# Altium schematic symbol library saw_filter_lib.SchLib: 5 symbols
Pins are listed as number, name and electrical type; pins without a type are passive.

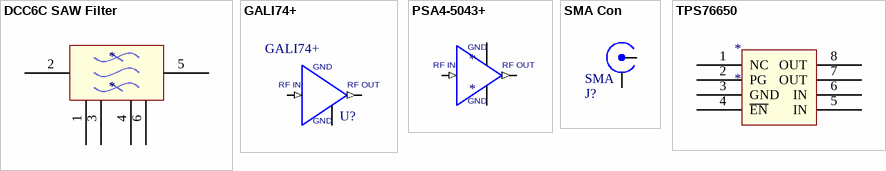
[diagram p0: symbols DCC6C SAW Filter to TPS76650]

## DCC6C SAW Filter
designator *
footprint DCC6C
pins: 1 IN, 2 IN, 3 IN, 4 IN, 5, 6 IN

## GALI74+
designator U?
Value: GALI74+
footprint DF782 (UofA Lib Pavel)
pins: 1 RF-IN (in), 2 GND (power), 3 RF-OUT (out)
text: RF IN; RF OUT

## PSA4-5043+
designator *
footprint SOT-343_M (SOT343, 4-Leads, Body 2x1.3 mm, Pitch 1.3mm, Lead Span 2.1mm, IPC Low Density)
pins: 1 RF-OUT (out), 2 GND (power), 3 RF-IN (in), 4
text: RF IN; RF OUT

## SMA Con
designator J?  value SMA  (hidden comment: SMA Con)
Power Connector
footprint SMA_EDGE
pins: 1, 2

## TPS76650
designator *
footprint TPS76633 (SOIC, 8-Leads, Body 5.0x4.0mm (max), Pitch 1.27mm, IPC Medium Density)
pins: 1 NC, 2 PG, 3 GND, 4 ~{EN}, 5 IN, 6 IN, 7 OUT, 8 OUT